# EAGLE library part ATTINY104-SSFR (library ATTINY104-SSFR)
None
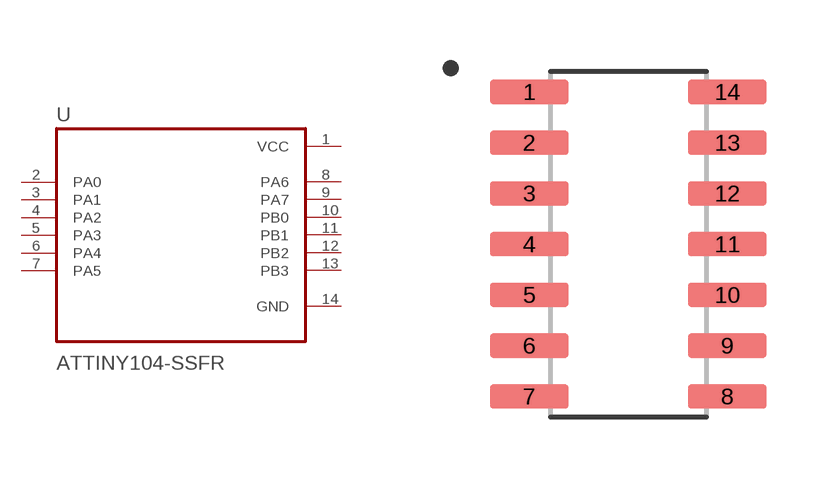
[diagram p0: symbol with the pads of SOIC127P600X175-14N; footprint SOIC127P600X175-14N]

Designator prefix U

## ATTINY104-SSFR (Availability: Good; Description: MCU 8-bit ATtiny AVR RISC 1KB Flash 2.5V/3.3V/5V 14-Pin SOIC T/R; MF: Microchip; MP: ATTINY104-SSFR; Package: SO-14 Microchip; Price: 0.63 USD)  [SOIC127P600X175-14N]
1  VCC  pwr
2  PA0
3  PA1
4  PA2
5  PA3
6  PA4
7  PA5
8  PA6
9  PA7
10  PB0
11  PB1
12  PB2
13  PB3
14  GND  pwr

## Footprint SOIC127P600X175-14N (pad centres in mm)
smd 1.97 x 0.6: 1 -2.475,3.81; 2 -2.475,2.54; 3 -2.475,1.27; 4 -2.475,0; 5 -2.475,-1.27; 6 -2.475,-2.54; 7 -2.475,-3.81; 8 2.475,-3.81; 9 2.475,-2.54; 10 2.475,-1.27; 11 2.475,0; 12 2.475,1.27; 13 2.475,2.54; 14 2.475,3.81